# Altium footprint library SODFL3618X110N.PcbLib: 1 footprints
Each footprint in its own frame and in the unit in brackets; x right, y up, seen from the top. Pads: shape width x height; smd on the part's side, far side on the other; paste and mask are expansions set on the pad; w line width, h text height; cw(c..) or ccw(c..) is an arc to the next point about the centre after c.
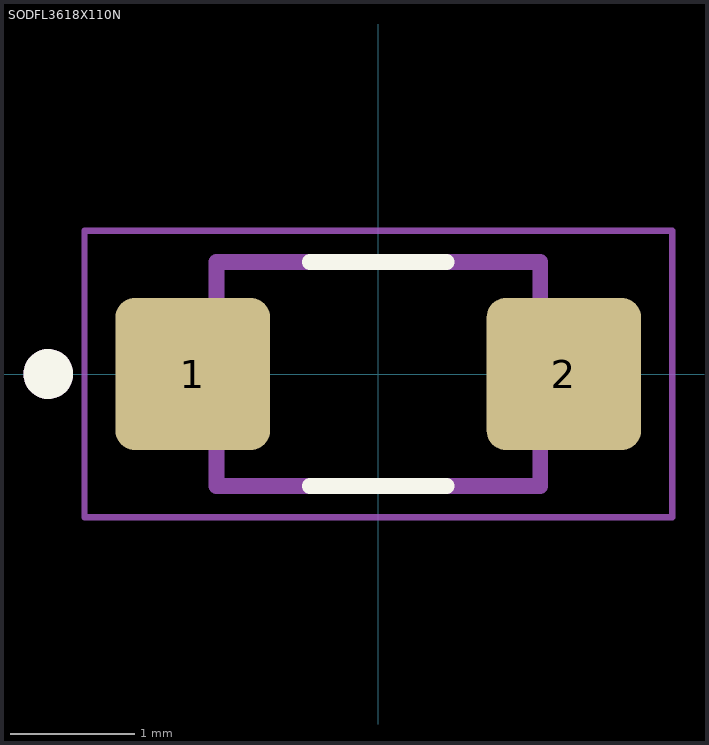
[diagram p0: the footprint, top view; thin cyan lines are the x and y axes]

## SODFL3618X110N [mm]
pads (2):
  rrect25% 1.24x1.22 smd: 1(-1.49,0) 2(1.49,0)
Top Overlay:
  circle w0.2: c-2.65,0 r0.1
  lines w0.127: -0.55,-0.9 0.55,-0.9 ; -0.55,0.9 0.55,0.9
Assembly Top:
  circle w0.2: c-2.65,0 r0.1
  lines w0.127: -1.3,-0.9 1.3,-0.9 1.3,0.9 -1.3,0.9 -1.3,-0.9
Courtyard Top:
  lines w0.05: -2.36,-1.15 2.36,-1.15 2.36,1.15 -2.36,1.15 -2.36,-1.15
3D body "step_temp.STEP": height 1.1, standoff 0, extent -1.8,-0.9 1.8,0.9